# EAGLE library part 5749069-8 (library con-amp-te)
TE CONNECTIVITY / AMP - BUCHSE, SCSI, VERTIKAL, 80 Source: Data sheet <http://www.tycoelectronics.com/commerce/DocumentDelivery/DDEController?Action=srchrtrv&DocNm=5749069&DocType=Customer+Drawing&DocLang=English>
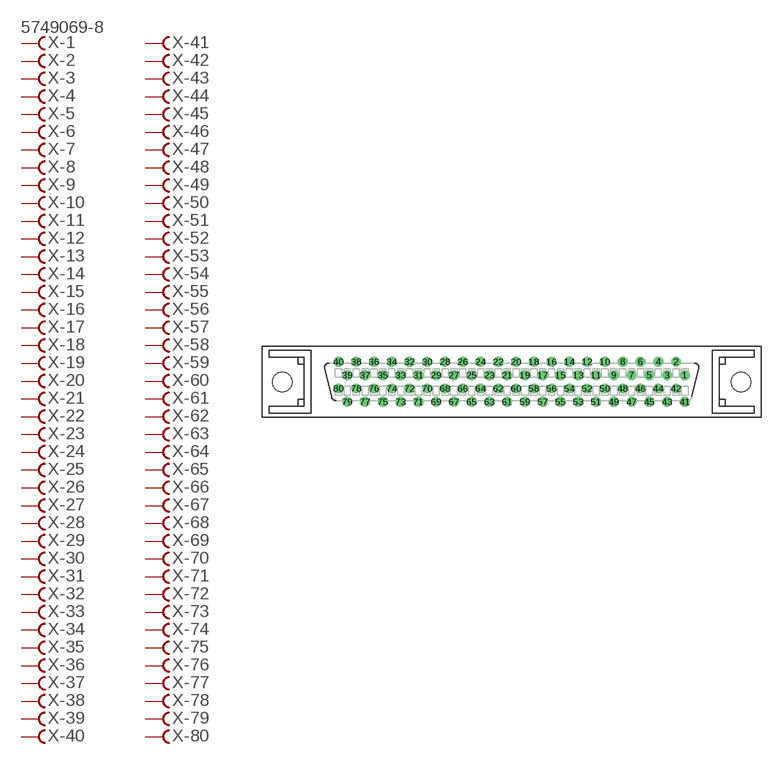
[diagram p1: symbol with the pads of 5749069-8; footprint 5749069-8]

Designator prefix X; gates -1=FV -2=F -3=F -4=F -5=F -6=F -7=F -8=F -9=F -10=F -11=F -12=F -13=F -14=F -15=F -16=F -17=F -18=F -19=F -20=F -21=F -22=F -23=F -24=F -25=F -26=F -27=F -28=F -29=F -30=F -31=F -32=F -33=F -34=F -35=F -36=F -37=F -38=F -39=F -40=F -41=F -42=F -43=F -44=F -45=F -46=F -47=F -48=F -49=F -50=F -51=F -52=F -53=F -54=F -55=F -56=F -57=F -58=F -59=F -60=F -61=F -62=F -63=F -64=F -65=F -66=F -67=F -68=F -69=F -70=F -71=F -72=F -73=F -74=F -75=F -76=F -77=F -78=F -79=F -80=F

## 5749069-8  [5749069-8]
1  -1:F  pas
2  -2:F  pas
3  -3:F  pas
4  -4:F  pas
5  -5:F  pas
6  -6:F  pas
7  -7:F  pas
8  -8:F  pas
9  -9:F  pas
10  -10:F  pas
11  -11:F  pas
12  -12:F  pas
13  -13:F  pas
14  -14:F  pas
15  -15:F  pas
16  -16:F  pas
17  -17:F  pas
18  -18:F  pas
19  -19:F  pas
20  -20:F  pas
21  -21:F  pas
22  -22:F  pas
23  -23:F  pas
24  -24:F  pas
25  -25:F  pas
26  -26:F  pas
27  -27:F  pas
28  -28:F  pas
29  -29:F  pas
30  -30:F  pas
31  -31:F  pas
32  -32:F  pas
33  -33:F  pas
34  -34:F  pas
35  -35:F  pas
36  -36:F  pas
37  -37:F  pas
38  -38:F  pas
39  -39:F  pas
40  -40:F  pas
41  -41:F  pas
42  -42:F  pas
43  -43:F  pas
44  -44:F  pas
45  -45:F  pas
46  -46:F  pas
47  -47:F  pas
48  -48:F  pas
49  -49:F  pas
50  -50:F  pas
51  -51:F  pas
52  -52:F  pas
53  -53:F  pas
54  -54:F  pas
55  -55:F  pas
56  -56:F  pas
57  -57:F  pas
58  -58:F  pas
59  -59:F  pas
60  -60:F  pas
61  -61:F  pas
62  -62:F  pas
63  -63:F  pas
64  -64:F  pas
65  -65:F  pas
66  -66:F  pas
67  -67:F  pas
68  -68:F  pas
69  -69:F  pas
70  -70:F  pas
71  -71:F  pas
72  -72:F  pas
73  -73:F  pas
74  -74:F  pas
75  -75:F  pas
76  -76:F  pas
77  -77:F  pas
78  -78:F  pas
79  -79:F  pas
80  -80:F  pas

## Footprint 5749069-8 (pad centres in mm)
TE CONNECTIVITY / AMP - BUCHSE, SCSI, VERTIKAL, 80 Source: Data sheet <http://www.tycoelectronics.com/commerce/DocumentDelivery/DDEController?Action=srchrtrv&DocNm=5749069&DocType=Customer+Drawing&DocLang=English>
drill 0.9 pad 1.27: 1 24.765,0.953; 2 23.495,2.863; 3 22.225,0.953; 4 20.955,2.863; 5 19.685,0.953; 6 18.415,2.863; 7 17.145,0.953; 8 15.875,2.863; 9 14.605,0.953; 10 13.335,2.863; 11 12.065,0.953; 12 10.795,2.863; 13 9.525,0.953; 14 8.255,2.863; 15 6.985,0.953; 16 5.715,2.863; 17 4.445,0.953; 18 3.175,2.863; 19 1.905,0.953; 20 0.635,2.863; 21 -0.635,0.953; 22 -1.905,2.863; 23 -3.175,0.953; 24 -4.445,2.863; 25 -5.715,0.953; 26 -6.985,2.863; 27 -8.255,0.953; 28 -9.525,2.863; 29 -10.795,0.953; 30 -12.065,2.863; 31 -13.335,0.953; 32 -14.605,2.863; 33 -15.875,0.953; 34 -17.145,2.863; 35 -18.415,0.953; 36 -19.685,2.863; 37 -20.955,0.953; 38 -22.225,2.863; 39 -23.495,0.953; 40 -24.765,2.863; 41 24.765,-2.867; 42 23.495,-0.957; 43 22.225,-2.867; 44 20.955,-0.957; 45 19.685,-2.867; 46 18.415,-0.957; 47 17.145,-2.867; 48 15.875,-0.957; 49 14.605,-2.867; 50 13.335,-0.957; 51 12.065,-2.867; 52 10.795,-0.957; 53 9.525,-2.867; 54 8.255,-0.957; 55 6.985,-2.867; 56 5.715,-0.957; 57 4.445,-2.867; 58 3.175,-0.957; 59 1.905,-2.867; 60 0.635,-0.957; 61 -0.635,-2.867; 62 -1.905,-0.957; 63 -3.175,-2.867; 64 -4.445,-0.957; 65 -5.715,-2.867; 66 -6.985,-0.957; 67 -8.255,-2.867; 68 -9.525,-0.957; 69 -10.795,-2.867; 70 -12.065,-0.957; 71 -13.335,-2.867; 72 -14.605,-0.957; 73 -15.875,-2.867; 74 -17.145,-0.957; 75 -18.415,-2.867; 76 -19.685,-0.957; 77 -20.955,-2.867; 78 -22.225,-0.957; 79 -23.495,-2.867; 80 -24.765,-0.957
hole 2.8 at -32.765,0
hole 2.8 at 32.765,0